# EAGLE library part PTN5100 (library firefly)
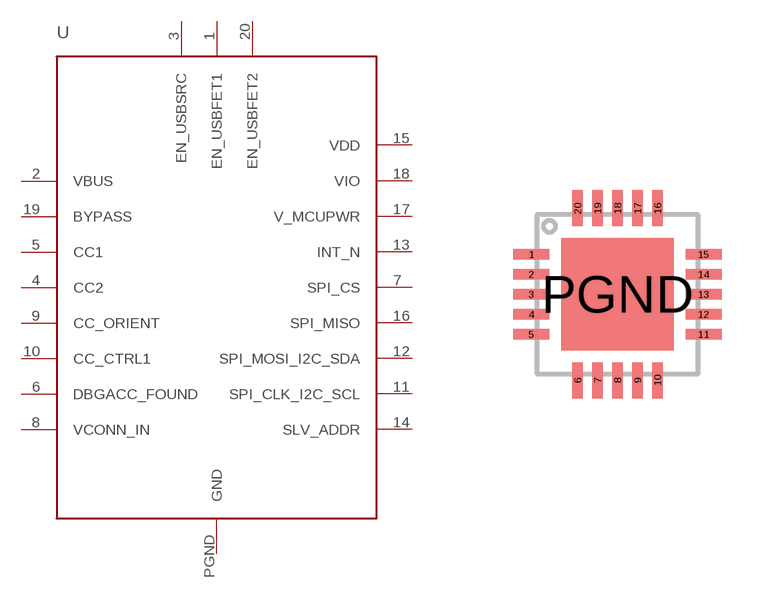
[diagram p35: symbol with the pads of HVQFN20; footprint HVQFN20]

Designator prefix -

## PTN5100  [HVQFN20]
1  EN_USBFET1
2  VBUS
3  EN_USBSRC
4  CC2
5  CC1
6  DBGACC_FOUND
7  SPI_CS
8  VCONN_IN
9  CC_ORIENT
10  CC_CTRL1
11  SPI_CLK_I2C_SCL
12  SPI_MOSI_I2C_SDA
13  INT_N
14  SLV_ADDR
15  VDD
16  SPI_MISO
17  V_MCUPWR
18  VIO
19  BYPASS
20  EN_USBFET2
PGND  GND

## Footprint HVQFN20 (pad centres in mm)
smd 0.9 x 0.27: 1 -2.15,1; 2 -2.15,0.5; 3 -2.15,0; 4 -2.15,-0.5; 5 -2.15,-1; 11 2.15,-1; 12 2.15,-0.5; 13 2.15,0; 14 2.15,0.5; 15 2.15,1
smd 0.27 x 0.9: 6 -1,-2.15; 7 -0.5,-2.15; 8 0,-2.15; 9 0.5,-2.15; 10 1,-2.15; 16 1,2.15; 17 0.5,2.15; 18 0,2.15; 19 -0.5,2.15; 20 -1,2.15
smd 2.8 x 2.8: PGND 0,0